# EAGLE library part LVM652 (library national)
12 MHz, Low Voltage, Low Power Amplifier (2 OPs)
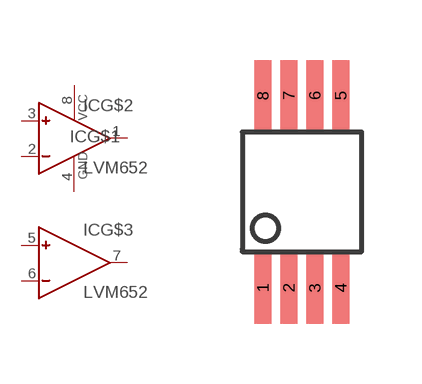
[diagram p2: symbol with the pads of MSOP8; footprint MSOP8]

Designator prefix IC; gates G$1=PWRN G$2=OP G$3=OP

## LVM652MM  [MSOP8]
1  G$2:OUT  out
2  G$2:IN-  in
3  G$2:IN+  in
4  G$1:GND  pwr
5  G$3:IN+  in
6  G$3:IN-  in
7  G$3:OUT  out
8  G$1:VCC  pwr

## Footprint MSOP8 (pad centres in mm)
MSOP--Package (NS Package Number MUA08A) - alle Maße konform zum Datenblatt LMV65x von National Semiconductor - (Bauteilhöhe max. 1,09 mm)
smd 0.42 x 1.78: 1 -0.975,-2.405; 2 -0.325,-2.405; 3 0.325,-2.405; 4 0.975,-2.405; 5 0.975,2.405; 6 0.325,2.405; 7 -0.325,2.405; 8 -0.975,2.405